# EAGLE library part MILLI-GRID-46 (library con-molex)
Milli-Grid Pin Header 2.00mm (.079") Pitch
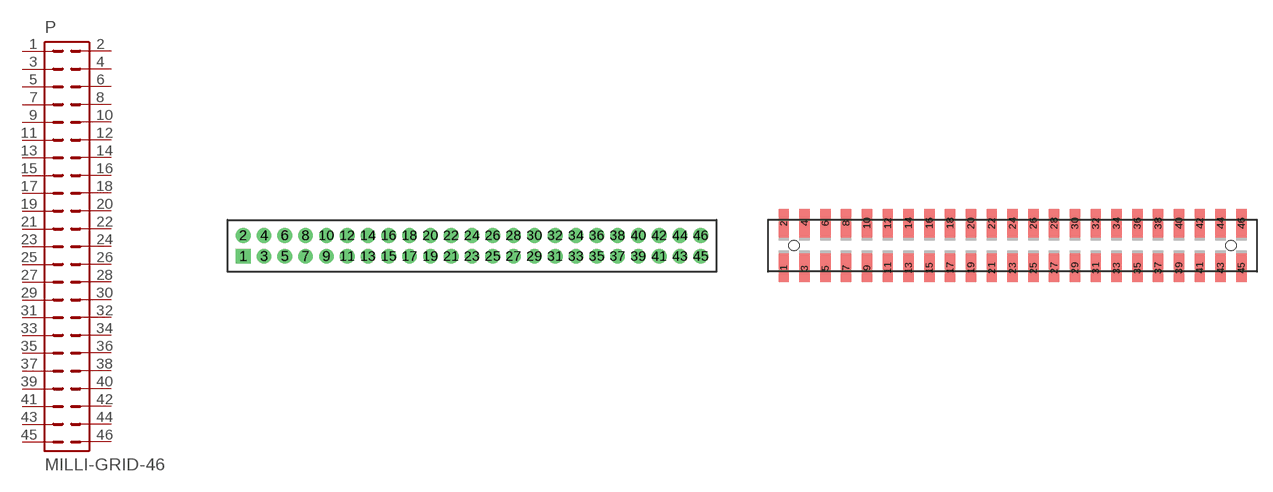
[diagram p71: symbol with the pads of 87758-46; footprints 87758-46, 87759-46]

Designator prefix P

## MILLI-GRID-46-87758  [87758-46]
1  1  pas
2  2  pas
3  3  pas
4  4  pas
5  5  pas
6  6  pas
7  7  pas
8  8  pas
9  9  pas
10  10  pas
11  11  pas
12  12  pas
13  13  pas
14  14  pas
15  15  pas
16  16  pas
17  17  pas
18  18  pas
19  19  pas
20  20  pas
21  21  pas
22  22  pas
23  23  pas
24  24  pas
25  25  pas
26  26  pas
27  27  pas
28  28  pas
29  29  pas
30  30  pas
31  31  pas
32  32  pas
33  33  pas
34  34  pas
35  35  pas
36  36  pas
37  37  pas
38  38  pas
39  39  pas
40  40  pas
41  41  pas
42  42  pas
43  43  pas
44  44  pas
45  45  pas
46  46  pas

## MILLI-GRID-46-87759  [87759-46]
Pads as for 87758-46

## MILLI-GRID-46-87264  [87264-46]
Pads as for 87758-46

## MILLI-GRID-46-87368  [87368-46]
Pads as for 87758-46

## Footprint 87758-46 (pad centres in mm)
PCB Pin Headers 2.00mm (.079") Pitch Milli-Grid Header, Vertical
drill 0.914 square: 1 -22,-1
drill 0.914: 2 -22,1; 3 -20,-1; 4 -20,1; 5 -18,-1; 6 -18,1; 7 -16,-1; 8 -16,1; 9 -14,-1; 10 -14,1; 11 -12,-1; 12 -12,1; 13 -10,-1; 14 -10,1; 15 -8,-1; 16 -8,1; 17 -6,-1; 18 -6,1; 19 -4,-1; 20 -4,1; 21 -2,-1; 22 -2,1; 23 0,-1; 24 0,1; 25 2,-1; 26 2,1; 27 4,-1; 28 4,1; 29 6,-1; 30 6,1; 31 8,-1; 32 8,1; 33 10,-1; 34 10,1; 35 12,-1; 36 12,1; 37 14,-1; 38 14,1; 39 16,-1; 40 16,1; 41 18,-1; 42 18,1; 43 20,-1; 44 20,1; 45 22,-1; 46 22,1

## Footprint 87759-46 (pad centres in mm)
PCB Pin Headers 2.00mm (.079") Pitch Milli-Grid Header, Vertical SMD
smd 1 x 2.75: 1 -22,-2.15; 2 -22,2.15; 3 -20,-2.15; 4 -20,2.15; 5 -18,-2.15; 6 -18,2.15; 7 -16,-2.15; 8 -16,2.15; 9 -14,-2.15; 10 -14,2.15; 11 -12,-2.15; 12 -12,2.15; 13 -10,-2.15; 14 -10,2.15; 15 -8,-2.15; 16 -8,2.15; 17 -6,-2.15; 18 -6,2.15; 19 -4,-2.15; 20 -4,2.15; 21 -2,-2.15; 22 -2,2.15; 23 0,-2.15; 24 0,2.15; 25 2,-2.15; 26 2,2.15; 27 4,-2.15; 28 4,2.15; 29 6,-2.15; 30 6,2.15; 31 8,-2.15; 32 8,2.15; 33 10,-2.15; 34 10,2.15; 35 12,-2.15; 36 12,2.15; 37 14,-2.15; 38 14,2.15; 39 16,-2.15; 40 16,2.15; 41 18,-2.15; 42 18,2.15; 43 20,-2.15; 44 20,2.15; 45 22,-2.15; 46 22,2.15
hole 1 at -21,0
hole 1 at 21,0

## Footprint 87264-46 (pad centres in mm)
Board-To-Board Receptacal 2.00mm (.079") Pitch Milli-Grid Header, Side Entry Mates with 2mm(.079") Mill-Grid Header
drill 0.914 square: 1 -22,-2.25
drill 0.914: 2 -22,2.25; 3 -20,-2.25; 4 -20,2.25; 5 -18,-2.25; 6 -18,2.25; 7 -16,-2.25; 8 -16,2.25; 9 -14,-2.25; 10 -14,2.25; 11 -12,-2.25; 12 -12,2.25; 13 -10,-2.25; 14 -10,2.25; 15 -8,-2.25; 16 -8,2.25; 17 -6,-2.25; 18 -6,2.25; 19 -4,-2.25; 20 -4,2.25; 21 -2,-2.25; 22 -2,2.25; 23 0,-2.25; 24 0,2.25; 25 2,-2.25; 26 2,2.25; 27 4,-2.25; 28 4,2.25; 29 6,-2.25; 30 6,2.25; 31 8,-2.25; 32 8,2.25; 33 10,-2.25; 34 10,2.25; 35 12,-2.25; 36 12,2.25; 37 14,-2.25; 38 14,2.25; 39 16,-2.25; 40 16,2.25; 41 18,-2.25; 42 18,2.25; 43 20,-2.25; 44 20,2.25; 45 22,-2.25; 46 22,2.25

## Footprint 87368-46 (pad centres in mm)
Board-To-Board Receptacal 2.00mm (.079") Pitch Milli-Grid Header, Side Entry SMD Mates with 2mm(.079") Mill-Grid Header
smd 1 x 2.8: 1 -22,-3.1; 2 -22,3.1; 3 -20,-3.1; 4 -20,3.1; 5 -18,-3.1; 6 -18,3.1; 7 -16,-3.1; 8 -16,3.1; 9 -14,-3.1; 10 -14,3.1; 11 -12,-3.1; 12 -12,3.1; 13 -10,-3.1; 14 -10,3.1; 15 -8,-3.1; 16 -8,3.1; 17 -6,-3.1; 18 -6,3.1; 19 -4,-3.1; 20 -4,3.1; 21 -2,-3.1; 22 -2,3.1; 23 0,-3.1; 24 0,3.1; 25 2,-3.1; 26 2,3.1; 27 4,-3.1; 28 4,3.1; 29 6,-3.1; 30 6,3.1; 31 8,-3.1; 32 8,3.1; 33 10,-3.1; 34 10,3.1; 35 12,-3.1; 36 12,3.1; 37 14,-3.1; 38 14,3.1; 39 16,-3.1; 40 16,3.1; 41 18,-3.1; 42 18,3.1; 43 20,-3.1; 44 20,3.1; 45 22,-3.1; 46 22,3.1
hole 0.914 at -22,0
hole 0.914 at 0,0